# Altium integrated library Linear Technology Power Management System Supervisor, Monitor and Control.IntLib: 1611 symbols (part 16 of 100)
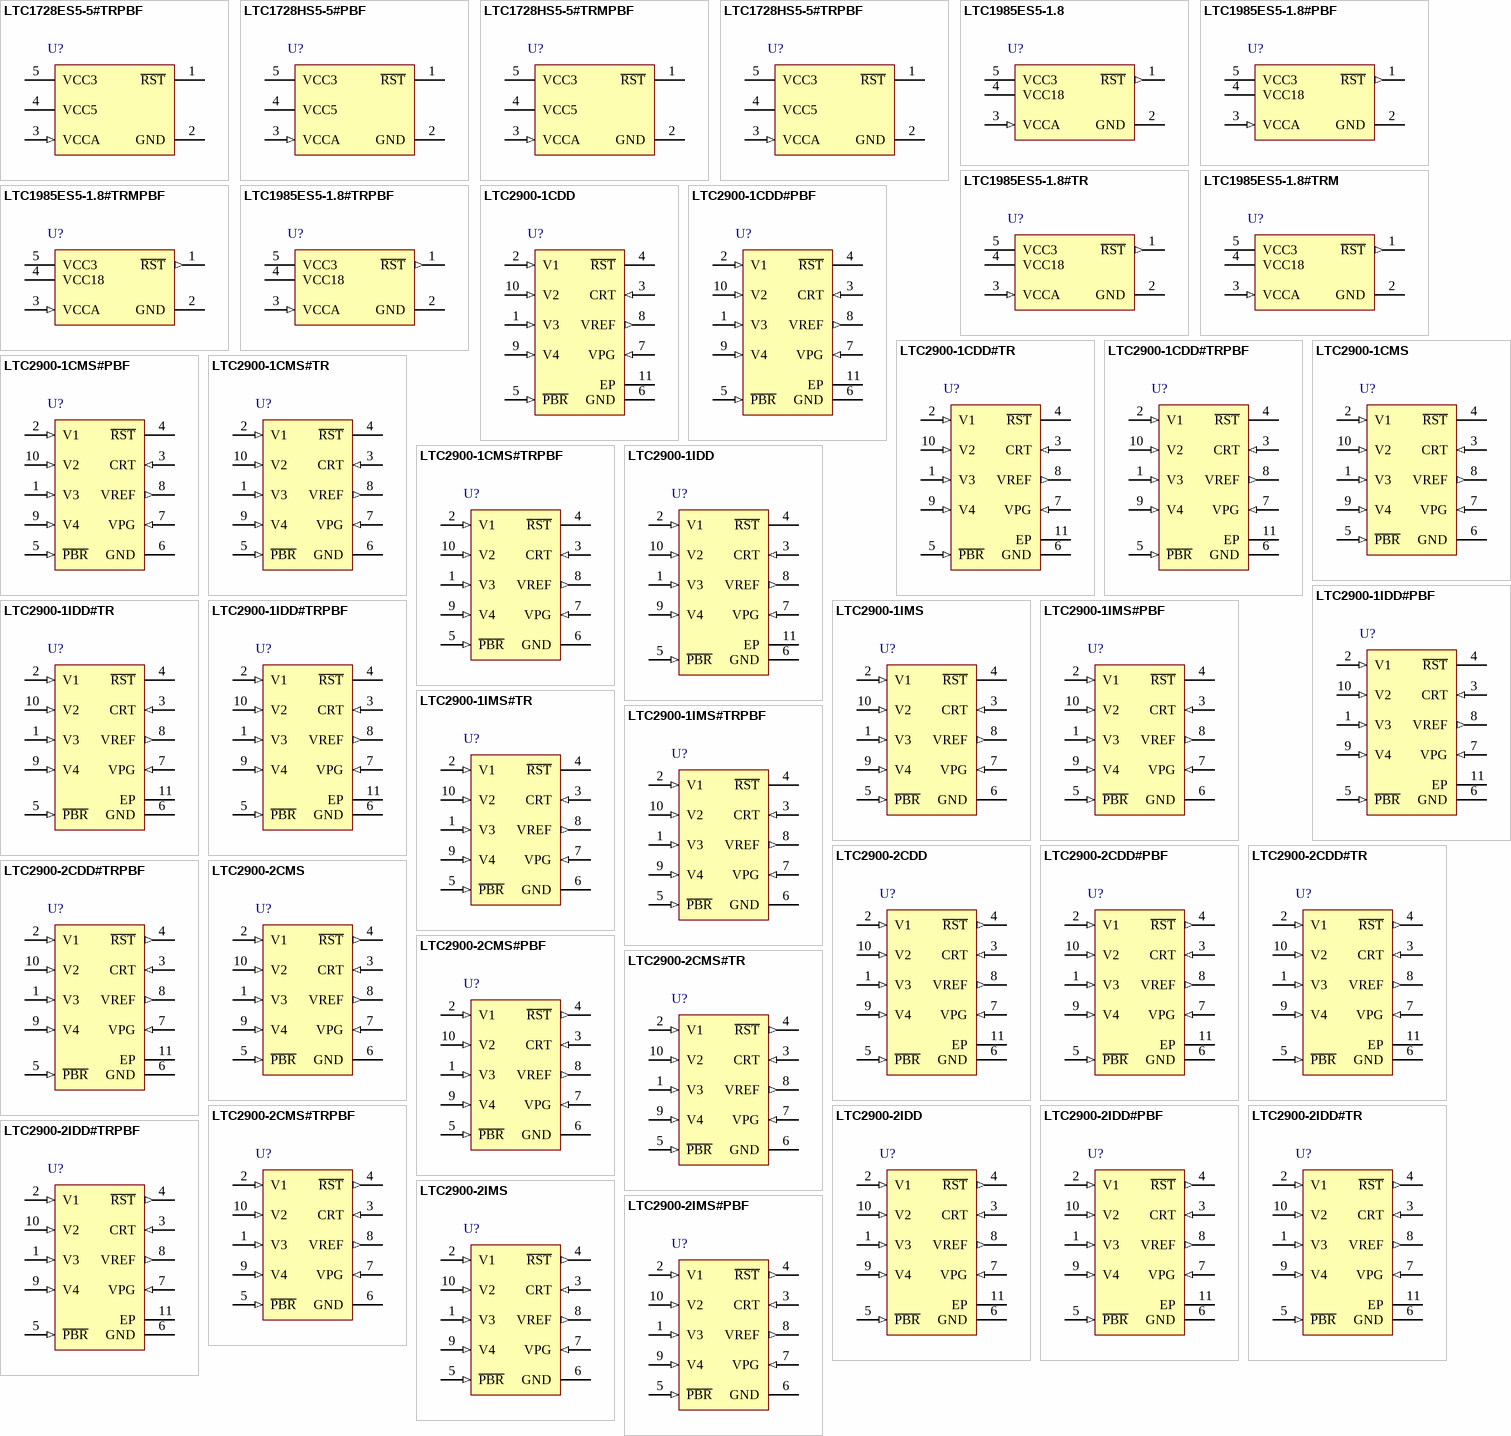
[diagram p60: symbols LTC1728ES5-5#TRPBF to LTC2900-2IMS#PBF]

## LTC2900-1IMS
designator U?
Programmable Quad Supply Monitor with Adjustable Reset Timer, 10-pin SOP (MS-10), -40 to 85 degC; Manufacturer: Linear Technology; PartNumber: LTC2900-1IMS; Number of Supplies(#): 4; PackageVersion: Rev. E, 06/2010; PackageReference: MS-10; PackageDescription: 10-Pin Plastic MSOP, Body 3 x 3 mm, Pitch 0.5 mm; Supplier 1: Digi-Key; Supplier Part Number 1: LTC2900-1IMS-ND; Supplier 2: Newark; Supplier Part Number 2: 56M6552; RoHS: FALSE; Mounting Technology: Surface Mount; ComponentLink1Description: Manufacturer URL; ComponentLink1URL: http://www.linear.com/; ComponentLink2Description: Datasheet; ComponentLink2URL: http://cds.linear.com/docs/en/datasheet/2900f.pdf; ComponentLink3Description: Package Specification; ComponentLink3URL: http://cds.linear.com/docs/en/packaging/05081661_F_MS.pdf
footprint LT-MS-10_N (SOP, 10-Leads, Body 3.1x3.1mm, Pitch 0.5mm, IPC Medium Density)
footprint LT-MS-10_L (SOP, 10-Leads, Body 3.1x3.1mm, Pitch 0.5mm, IPC High Density)
footprint LT-MS-10_M (SOP, 10-Leads, Body 3.1x3.1mm, Pitch 0.5mm, IPC Low Density)
pins: 1 V3 (in) "Voltage Input 3. Select from 2.5V, 1.8V, 1.5V or ADJ. See Table 1 for details.", 2 V1 (in) "Voltage Input 1. Select from 5V or 3.3V. See Table 1 for details. The greater of (V1, V2) is also VCC for the device. Bypass this pin to ground with a 0.1uF (or greater) capacitor.", 3 CRT (in) "Reset Delay Time Programming Pin. Attach an external capacitor (CRT) to GND to set a reset delay time of 4.6ms/nF. Leaving the pin open generates a minimum delay of approximately 50us. A 47nF capacitor will generate a 216ms (See Datasheet)", 4 ~{RST} (oc) "Reset Logic Output. Active low with weak pull-up to V2 (LTC2900-1) or active pull-up to V2 (LTC2900-2). Pulls low when any voltage input is below the reset threshold and held low for the programmed delay time after all (See Datasheet)", 5 ~{PBR} (in) "Manual Reset Pin. Attach a push-button switch between this pin and ground. A logic low on this pin will pull R\S\T\ low. When the P\B\R\ pin returns high, R\S\T\ will return high after the programmed reset delay assuming all (See Datasheet)", 6 GND (power) "Ground.", 7 VPG (in) "Voltage Threshold Combination Select Input. Connect to an external 1% resistive divider between VREF and GND to select 1 of 16 combinations of preset and/or +/-adjustable voltage thresholds (see Table 1). Do not add (See Datasheet)", 8 VREF (out) "Buffered Reference Voltage. A 1.210V nominal reference used for the programming voltage (VPG) and for the offset of negative adjustable applications. The buffered reference can source and sink up to 1mA. The reference can (See Datasheet)", 9 V4 (in) "Voltage Input 4. Select from 1.8V, 1.5V, ADJ or -ADJ. See Table 1 for details.", 10 V2 (in) "Voltage Input 2. Select from 3.3V, 3V or 2.5V. See Table 1 for details. The greater of (V1, V2) is also VCC for the device. Bypass this pin to ground with a 0.1uF (or greater) capacitor. R\S\T\ is weakly pulled up to V2 (See Datasheet)"

## LTC2900-1IMS#PBF
designator U?
Programmable Quad Supply Monitor with Adjustable Reset Timer, 10-pin SOP (MS-10), -40 to 85 degC, Pb-Free; Manufacturer: Linear Technology; PartNumber: LTC2900-1IMS#PBF; Number of Supplies(#): 4; PackageVersion: Rev. E, 06/2010; PackageReference: MS-10; PackageDescription: 10-Pin Plastic MSOP, Body 3 x 3 mm, Pitch 0.5 mm; Supplier 1: Digi-Key; Supplier Part Number 1: LTC2900-1IMS#PBF-ND; Supplier 2: Farnell; Supplier Part Number 2: 2102613; Supplier 3: Farnell; Supplier Part Number 3: 1556404; Supplier 4: Newark; Supplier Part Number 4: 56M6553; RoHS: TRUE; Mounting Technology: Surface Mount; ComponentLink1Description: Manufacturer URL; ComponentLink1URL: http://www.linear.com/; ComponentLink2Description: Datasheet; ComponentLink2URL: http://cds.linear.com/docs/en/datasheet/2900f.pdf; ComponentLink3Description: Package Specification; ComponentLink3URL: http://cds.linear.com/docs/en/packaging/05081661_F_MS.pdf
footprint LT-MS-10_N (SOP, 10-Leads, Body 3.1x3.1mm, Pitch 0.5mm, IPC Medium Density)
footprint LT-MS-10_L (SOP, 10-Leads, Body 3.1x3.1mm, Pitch 0.5mm, IPC High Density)
footprint LT-MS-10_M (SOP, 10-Leads, Body 3.1x3.1mm, Pitch 0.5mm, IPC Low Density)
pins: 1 V3 (in) "Voltage Input 3. Select from 2.5V, 1.8V, 1.5V or ADJ. See Table 1 for details.", 2 V1 (in) "Voltage Input 1. Select from 5V or 3.3V. See Table 1 for details. The greater of (V1, V2) is also VCC for the device. Bypass this pin to ground with a 0.1uF (or greater) capacitor.", 3 CRT (in) "Reset Delay Time Programming Pin. Attach an external capacitor (CRT) to GND to set a reset delay time of 4.6ms/nF. Leaving the pin open generates a minimum delay of approximately 50us. A 47nF capacitor will generate a 216ms (See Datasheet)", 4 ~{RST} (oc) "Reset Logic Output. Active low with weak pull-up to V2 (LTC2900-1) or active pull-up to V2 (LTC2900-2). Pulls low when any voltage input is below the reset threshold and held low for the programmed delay time after all (See Datasheet)", 5 ~{PBR} (in) "Manual Reset Pin. Attach a push-button switch between this pin and ground. A logic low on this pin will pull R\S\T\ low. When the P\B\R\ pin returns high, R\S\T\ will return high after the programmed reset delay assuming all (See Datasheet)", 6 GND (power) "Ground.", 7 VPG (in) "Voltage Threshold Combination Select Input. Connect to an external 1% resistive divider between VREF and GND to select 1 of 16 combinations of preset and/or +/-adjustable voltage thresholds (see Table 1). Do not add (See Datasheet)", 8 VREF (out) "Buffered Reference Voltage. A 1.210V nominal reference used for the programming voltage (VPG) and for the offset of negative adjustable applications. The buffered reference can source and sink up to 1mA. The reference can (See Datasheet)", 9 V4 (in) "Voltage Input 4. Select from 1.8V, 1.5V, ADJ or -ADJ. See Table 1 for details.", 10 V2 (in) "Voltage Input 2. Select from 3.3V, 3V or 2.5V. See Table 1 for details. The greater of (V1, V2) is also VCC for the device. Bypass this pin to ground with a 0.1uF (or greater) capacitor. R\S\T\ is weakly pulled up to V2 (See Datasheet)"

## LTC2900-1IMS#TR
designator U?
Programmable Quad Supply Monitor with Adjustable Reset Timer, 10-pin SOP (MS-10), -40 to 85 degC, Tape and Reel; Manufacturer: Linear Technology; PartNumber: LTC2900-1IMS#TR; Number of Supplies(#): 4; PackageVersion: Rev. E, 06/2010; PackageReference: MS-10; PackageDescription: 10-Pin Plastic MSOP, Body 3 x 3 mm, Pitch 0.5 mm; Supplier 1: Digi-Key; Supplier Part Number 1: LTC2900-1IMS#TR-ND; Packing: Tape and Reel; RoHS: FALSE; Mounting Technology: Surface Mount; ComponentLink1Description: Manufacturer URL; ComponentLink1URL: http://www.linear.com/; ComponentLink2Description: Datasheet; ComponentLink2URL: http://cds.linear.com/docs/en/datasheet/2900f.pdf; ComponentLink3Description: Package Specification; ComponentLink3URL: http://cds.linear.com/docs/en/packaging/05081661_F_MS.pdf
footprint LT-MS-10_N (SOP, 10-Leads, Body 3.1x3.1mm, Pitch 0.5mm, IPC Medium Density)
footprint LT-MS-10_L (SOP, 10-Leads, Body 3.1x3.1mm, Pitch 0.5mm, IPC High Density)
footprint LT-MS-10_M (SOP, 10-Leads, Body 3.1x3.1mm, Pitch 0.5mm, IPC Low Density)
pins: 1 V3 (in) "Voltage Input 3. Select from 2.5V, 1.8V, 1.5V or ADJ. See Table 1 for details.", 2 V1 (in) "Voltage Input 1. Select from 5V or 3.3V. See Table 1 for details. The greater of (V1, V2) is also VCC for the device. Bypass this pin to ground with a 0.1uF (or greater) capacitor.", 3 CRT (in) "Reset Delay Time Programming Pin. Attach an external capacitor (CRT) to GND to set a reset delay time of 4.6ms/nF. Leaving the pin open generates a minimum delay of approximately 50us. A 47nF capacitor will generate a 216ms (See Datasheet)", 4 ~{RST} (oc) "Reset Logic Output. Active low with weak pull-up to V2 (LTC2900-1) or active pull-up to V2 (LTC2900-2). Pulls low when any voltage input is below the reset threshold and held low for the programmed delay time after all (See Datasheet)", 5 ~{PBR} (in) "Manual Reset Pin. Attach a push-button switch between this pin and ground. A logic low on this pin will pull R\S\T\ low. When the P\B\R\ pin returns high, R\S\T\ will return high after the programmed reset delay assuming all (See Datasheet)", 6 GND (power) "Ground.", 7 VPG (in) "Voltage Threshold Combination Select Input. Connect to an external 1% resistive divider between VREF and GND to select 1 of 16 combinations of preset and/or +/-adjustable voltage thresholds (see Table 1). Do not add (See Datasheet)", 8 VREF (out) "Buffered Reference Voltage. A 1.210V nominal reference used for the programming voltage (VPG) and for the offset of negative adjustable applications. The buffered reference can source and sink up to 1mA. The reference can (See Datasheet)", 9 V4 (in) "Voltage Input 4. Select from 1.8V, 1.5V, ADJ or -ADJ. See Table 1 for details.", 10 V2 (in) "Voltage Input 2. Select from 3.3V, 3V or 2.5V. See Table 1 for details. The greater of (V1, V2) is also VCC for the device. Bypass this pin to ground with a 0.1uF (or greater) capacitor. R\S\T\ is weakly pulled up to V2 (See Datasheet)"

## LTC2900-1IMS#TRPBF
designator U?
Programmable Quad Supply Monitor with Adjustable Reset Timer, 10-pin SOP (MS-10), -40 to 85 degC, Pb-Free, Tape and Reel; Manufacturer: Linear Technology; PartNumber: LTC2900-1IMS#TRPBF; Number of Supplies(#): 4; PackageVersion: Rev. E, 06/2010; PackageReference: MS-10; PackageDescription: 10-Pin Plastic MSOP, Body 3 x 3 mm, Pitch 0.5 mm; Supplier 1: Digi-Key; Supplier Part Number 1: LTC2900-1IMS#TRPBF-ND; Supplier 2: Newark; Supplier Part Number 2: 56M6555; Packing: Tape and Reel; RoHS: TRUE; Mounting Technology: Surface Mount; ComponentLink1Description: Manufacturer URL; ComponentLink1URL: http://www.linear.com/; ComponentLink2Description: Datasheet; ComponentLink2URL: http://cds.linear.com/docs/en/datasheet/2900f.pdf; ComponentLink3Description: Package Specification; ComponentLink3URL: http://cds.linear.com/docs/en/packaging/05081661_F_MS.pdf
footprint LT-MS-10_N (SOP, 10-Leads, Body 3.1x3.1mm, Pitch 0.5mm, IPC Medium Density)
footprint LT-MS-10_L (SOP, 10-Leads, Body 3.1x3.1mm, Pitch 0.5mm, IPC High Density)
footprint LT-MS-10_M (SOP, 10-Leads, Body 3.1x3.1mm, Pitch 0.5mm, IPC Low Density)
pins: 1 V3 (in) "Voltage Input 3. Select from 2.5V, 1.8V, 1.5V or ADJ. See Table 1 for details.", 2 V1 (in) "Voltage Input 1. Select from 5V or 3.3V. See Table 1 for details. The greater of (V1, V2) is also VCC for the device. Bypass this pin to ground with a 0.1uF (or greater) capacitor.", 3 CRT (in) "Reset Delay Time Programming Pin. Attach an external capacitor (CRT) to GND to set a reset delay time of 4.6ms/nF. Leaving the pin open generates a minimum delay of approximately 50us. A 47nF capacitor will generate a 216ms (See Datasheet)", 4 ~{RST} (oc) "Reset Logic Output. Active low with weak pull-up to V2 (LTC2900-1) or active pull-up to V2 (LTC2900-2). Pulls low when any voltage input is below the reset threshold and held low for the programmed delay time after all (See Datasheet)", 5 ~{PBR} (in) "Manual Reset Pin. Attach a push-button switch between this pin and ground. A logic low on this pin will pull R\S\T\ low. When the P\B\R\ pin returns high, R\S\T\ will return high after the programmed reset delay assuming all (See Datasheet)", 6 GND (power) "Ground.", 7 VPG (in) "Voltage Threshold Combination Select Input. Connect to an external 1% resistive divider between VREF and GND to select 1 of 16 combinations of preset and/or +/-adjustable voltage thresholds (see Table 1). Do not add (See Datasheet)", 8 VREF (out) "Buffered Reference Voltage. A 1.210V nominal reference used for the programming voltage (VPG) and for the offset of negative adjustable applications. The buffered reference can source and sink up to 1mA. The reference can (See Datasheet)", 9 V4 (in) "Voltage Input 4. Select from 1.8V, 1.5V, ADJ or -ADJ. See Table 1 for details.", 10 V2 (in) "Voltage Input 2. Select from 3.3V, 3V or 2.5V. See Table 1 for details. The greater of (V1, V2) is also VCC for the device. Bypass this pin to ground with a 0.1uF (or greater) capacitor. R\S\T\ is weakly pulled up to V2 (See Datasheet)"

## LTC2900-2CDD
designator U?
Programmable Quad Supply Monitor with Adjustable Reset Timer, 10-pin SON (DD-10), 0 to 70 degC; Manufacturer: Linear Technology; PartNumber: LTC2900-2CDD; Number of Supplies(#): 4; PackageVersion: Rev. C, 06/2010; PackageReference: DD-10; PackageDescription: 10-Pin Plastic DFN, Body 3 x 3 mm, Pitch 0.5 mm; Supplier 1: Digi-Key; Supplier Part Number 1: LTC2900-2CDD-ND; RoHS: FALSE; Mounting Technology: Surface Mount; Code_JEDEC: MO-229; ComponentLink1Description: Manufacturer URL; ComponentLink1URL: http://www.linear.com/; ComponentLink2Description: Datasheet; ComponentLink2URL: http://cds.linear.com/docs/en/datasheet/2900f.pdf; ComponentLink3Description: Package Specification; ComponentLink3URL: http://cds.linear.com/docs/en/packaging/DFN_10_05-08-1699.pdf
footprint LT-DD-10_V (SON, 10-Leads, Body 3x3mm, Pitch 0.5mm, Thermal Pad 2.38x1.65mm)
pins: 1 V3 (in) "Voltage Input 3. Select from 2.5V, 1.8V, 1.5V or ADJ. See Table 1 for details.", 2 V1 (in) "Voltage Input 1. Select from 5V or 3.3V. See Table 1 for details. The greater of (V1, V2) is also VCC for the device. Bypass this pin to ground with a 0.1uF (or greater) capacitor.", 3 CRT (in) "Reset Delay Time Programming Pin. Attach an external capacitor (CRT) to GND to set a reset delay time of 4.6ms/nF. Leaving the pin open generates a minimum delay of approximately 50ms. A 47nF capacitor will generate a 216ms (See Datasheet)", 4 ~{RST} (out) "Reset Logic Output. Active low with active pull-up to V2 (LTC2900-2). Pulls low when any voltage input is below the reset threshold and held low for the programmed delay time after all voltage inputs are above threshold.", 5 ~{PBR} (in) "Manual Reset Pin. Attach a push-button switch between this pin and ground. A logic low on this pin will pull R\S\T\ low. When the P\B\R\ pin returns high, R\S\T\ will return high after the programmed reset delay assuming all (See Datasheet)", 6 GND (power) "Ground.", 7 VPG (in) "Voltage Threshold Combination Select Input. Connect to an external 1% resistive divider between VREF and GND to select 1 of 16 combinations of preset and/or +/-adjustable voltage thresholds (see Table 1). Do not add (See Datasheet)", 8 VREF (out) "Buffered Reference Voltage. A 1.210V nominal reference used for the programming voltage (VPG) and for the offset of negative adjustable applications. The buffered reference can source and sink up to 1mA. The reference can (See Datasheet)", 9 V4 (in) "Voltage Input 4. Select from 1.8V, 1.5V, ADJ or -ADJ. See Table 1 for details.", 10 V2 (in) "Voltage Input 2. Select from 3.3V, 3V or 2.5V. See Table 1 for details. The greater of (V1, V2) is also VCC for the device. Bypass this pin to ground with a 0.1uF (or greater) capacitor.R\S\T\ is actively pulled up to V2 in (See Datasheet)", 11 EP

## LTC2900-2CDD#PBF
designator U?
Programmable Quad Supply Monitor with Adjustable Reset Timer, 10-pin SON (DD-10), 0 to 70 degC, Pb-Free; Manufacturer: Linear Technology; PartNumber: LTC2900-2CDD#PBF; Number of Supplies(#): 4; PackageVersion: Rev. C, 06/2010; PackageReference: DD-10; PackageDescription: 10-Pin Plastic DFN, Body 3 x 3 mm, Pitch 0.5 mm; Supplier 1: Digi-Key; Supplier Part Number 1: LTC2900-2CDD#PBF-ND; RoHS: TRUE; Mounting Technology: Surface Mount; Code_JEDEC: MO-229; ComponentLink1Description: Manufacturer URL; ComponentLink1URL: http://www.linear.com/; ComponentLink2Description: Datasheet; ComponentLink2URL: http://cds.linear.com/docs/en/datasheet/2900f.pdf; ComponentLink3Description: Package Specification; ComponentLink3URL: http://cds.linear.com/docs/en/packaging/DFN_10_05-08-1699.pdf
footprint LT-DD-10_V (SON, 10-Leads, Body 3x3mm, Pitch 0.5mm, Thermal Pad 2.38x1.65mm)
pins: 1 V3 (in) "Voltage Input 3. Select from 2.5V, 1.8V, 1.5V or ADJ. See Table 1 for details.", 2 V1 (in) "Voltage Input 1. Select from 5V or 3.3V. See Table 1 for details. The greater of (V1, V2) is also VCC for the device. Bypass this pin to ground with a 0.1uF (or greater) capacitor.", 3 CRT (in) "Reset Delay Time Programming Pin. Attach an external capacitor (CRT) to GND to set a reset delay time of 4.6ms/nF. Leaving the pin open generates a minimum delay of approximately 50ms. A 47nF capacitor will generate a 216ms (See Datasheet)", 4 ~{RST} (out) "Reset Logic Output. Active low with active pull-up to V2 (LTC2900-2). Pulls low when any voltage input is below the reset threshold and held low for the programmed delay time after all voltage inputs are above threshold.", 5 ~{PBR} (in) "Manual Reset Pin. Attach a push-button switch between this pin and ground. A logic low on this pin will pull R\S\T\ low. When the P\B\R\ pin returns high, R\S\T\ will return high after the programmed reset delay assuming all (See Datasheet)", 6 GND (power) "Ground.", 7 VPG (in) "Voltage Threshold Combination Select Input. Connect to an external 1% resistive divider between VREF and GND to select 1 of 16 combinations of preset and/or +/-adjustable voltage thresholds (see Table 1). Do not add (See Datasheet)", 8 VREF (out) "Buffered Reference Voltage. A 1.210V nominal reference used for the programming voltage (VPG) and for the offset of negative adjustable applications. The buffered reference can source and sink up to 1mA. The reference can (See Datasheet)", 9 V4 (in) "Voltage Input 4. Select from 1.8V, 1.5V, ADJ or -ADJ. See Table 1 for details.", 10 V2 (in) "Voltage Input 2. Select from 3.3V, 3V or 2.5V. See Table 1 for details. The greater of (V1, V2) is also VCC for the device. Bypass this pin to ground with a 0.1uF (or greater) capacitor.R\S\T\ is actively pulled up to V2 in (See Datasheet)", 11 EP

## LTC2900-2CDD#TR
designator U?
Programmable Quad Supply Monitor with Adjustable Reset Timer, 10-pin SON (DD-10), 0 to 70 degC, Tape and Reel; Manufacturer: Linear Technology; PartNumber: LTC2900-2CDD#TR; Number of Supplies(#): 4; PackageVersion: Rev. C, 06/2010; PackageReference: DD-10; PackageDescription: 10-Pin Plastic DFN, Body 3 x 3 mm, Pitch 0.5 mm; Supplier 1: Digi-Key; Supplier Part Number 1: LTC2900-2CDD#TR-ND; Packing: Tape and Reel; RoHS: FALSE; Mounting Technology: Surface Mount; Code_JEDEC: MO-229; ComponentLink1Description: Manufacturer URL; ComponentLink1URL: http://www.linear.com/; ComponentLink2Description: Datasheet; ComponentLink2URL: http://cds.linear.com/docs/en/datasheet/2900f.pdf; ComponentLink3Description: Package Specification; ComponentLink3URL: http://cds.linear.com/docs/en/packaging/DFN_10_05-08-1699.pdf
footprint LT-DD-10_V (SON, 10-Leads, Body 3x3mm, Pitch 0.5mm, Thermal Pad 2.38x1.65mm)
pins: 1 V3 (in) "Voltage Input 3. Select from 2.5V, 1.8V, 1.5V or ADJ. See Table 1 for details.", 2 V1 (in) "Voltage Input 1. Select from 5V or 3.3V. See Table 1 for details. The greater of (V1, V2) is also VCC for the device. Bypass this pin to ground with a 0.1uF (or greater) capacitor.", 3 CRT (in) "Reset Delay Time Programming Pin. Attach an external capacitor (CRT) to GND to set a reset delay time of 4.6ms/nF. Leaving the pin open generates a minimum delay of approximately 50ms. A 47nF capacitor will generate a 216ms (See Datasheet)", 4 ~{RST} (out) "Reset Logic Output. Active low with active pull-up to V2 (LTC2900-2). Pulls low when any voltage input is below the reset threshold and held low for the programmed delay time after all voltage inputs are above threshold.", 5 ~{PBR} (in) "Manual Reset Pin. Attach a push-button switch between this pin and ground. A logic low on this pin will pull R\S\T\ low. When the P\B\R\ pin returns high, R\S\T\ will return high after the programmed reset delay assuming all (See Datasheet)", 6 GND (power) "Ground.", 7 VPG (in) "Voltage Threshold Combination Select Input. Connect to an external 1% resistive divider between VREF and GND to select 1 of 16 combinations of preset and/or +/-adjustable voltage thresholds (see Table 1). Do not add (See Datasheet)", 8 VREF (out) "Buffered Reference Voltage. A 1.210V nominal reference used for the programming voltage (VPG) and for the offset of negative adjustable applications. The buffered reference can source and sink up to 1mA. The reference can (See Datasheet)", 9 V4 (in) "Voltage Input 4. Select from 1.8V, 1.5V, ADJ or -ADJ. See Table 1 for details.", 10 V2 (in) "Voltage Input 2. Select from 3.3V, 3V or 2.5V. See Table 1 for details. The greater of (V1, V2) is also VCC for the device. Bypass this pin to ground with a 0.1uF (or greater) capacitor.R\S\T\ is actively pulled up to V2 in (See Datasheet)", 11 EP

## LTC2900-2CDD#TRPBF
designator U?
Programmable Quad Supply Monitor with Adjustable Reset Timer, 10-pin SON (DD-10), 0 to 70 degC, Pb-Free, Tape and Reel; Manufacturer: Linear Technology; PartNumber: LTC2900-2CDD#TRPBF; Number of Supplies(#): 4; PackageVersion: Rev. C, 06/2010; PackageReference: DD-10; PackageDescription: 10-Pin Plastic DFN, Body 3 x 3 mm, Pitch 0.5 mm; Supplier 1: Digi-Key; Supplier Part Number 1: LTC2900-2CDD#TRPBF-ND; Packing: Tape and Reel; RoHS: TRUE; Mounting Technology: Surface Mount; Code_JEDEC: MO-229; ComponentLink1Description: Manufacturer URL; ComponentLink1URL: http://www.linear.com/; ComponentLink2Description: Datasheet; ComponentLink2URL: http://cds.linear.com/docs/en/datasheet/2900f.pdf; ComponentLink3Description: Package Specification; ComponentLink3URL: http://cds.linear.com/docs/en/packaging/DFN_10_05-08-1699.pdf
footprint LT-DD-10_V (SON, 10-Leads, Body 3x3mm, Pitch 0.5mm, Thermal Pad 2.38x1.65mm)
pins: 1 V3 (in) "Voltage Input 3. Select from 2.5V, 1.8V, 1.5V or ADJ. See Table 1 for details.", 2 V1 (in) "Voltage Input 1. Select from 5V or 3.3V. See Table 1 for details. The greater of (V1, V2) is also VCC for the device. Bypass this pin to ground with a 0.1uF (or greater) capacitor.", 3 CRT (in) "Reset Delay Time Programming Pin. Attach an external capacitor (CRT) to GND to set a reset delay time of 4.6ms/nF. Leaving the pin open generates a minimum delay of approximately 50ms. A 47nF capacitor will generate a 216ms (See Datasheet)", 4 ~{RST} (out) "Reset Logic Output. Active low with active pull-up to V2 (LTC2900-2). Pulls low when any voltage input is below the reset threshold and held low for the programmed delay time after all voltage inputs are above threshold.", 5 ~{PBR} (in) "Manual Reset Pin. Attach a push-button switch between this pin and ground. A logic low on this pin will pull R\S\T\ low. When the P\B\R\ pin returns high, R\S\T\ will return high after the programmed reset delay assuming all (See Datasheet)", 6 GND (power) "Ground.", 7 VPG (in) "Voltage Threshold Combination Select Input. Connect to an external 1% resistive divider between VREF and GND to select 1 of 16 combinations of preset and/or +/-adjustable voltage thresholds (see Table 1). Do not add (See Datasheet)", 8 VREF (out) "Buffered Reference Voltage. A 1.210V nominal reference used for the programming voltage (VPG) and for the offset of negative adjustable applications. The buffered reference can source and sink up to 1mA. The reference can (See Datasheet)", 9 V4 (in) "Voltage Input 4. Select from 1.8V, 1.5V, ADJ or -ADJ. See Table 1 for details.", 10 V2 (in) "Voltage Input 2. Select from 3.3V, 3V or 2.5V. See Table 1 for details. The greater of (V1, V2) is also VCC for the device. Bypass this pin to ground with a 0.1uF (or greater) capacitor.R\S\T\ is actively pulled up to V2 in (See Datasheet)", 11 EP

## LTC2900-2CMS
designator U?
Programmable Quad Supply Monitor with Adjustable Reset Timer, 10-pin SOP (MS-10), 0 to 70 degC; Manufacturer: Linear Technology; PartNumber: LTC2900-2CMS; Number of Supplies(#): 4; PackageVersion: Rev. E, 06/2010; PackageReference: MS-10; PackageDescription: 10-Pin Plastic MSOP, Body 3 x 3 mm, Pitch 0.5 mm; RoHS: FALSE; Mounting Technology: Surface Mount; ComponentLink1Description: Manufacturer URL; ComponentLink1URL: http://www.linear.com/; ComponentLink2Description: Datasheet; ComponentLink2URL: http://cds.linear.com/docs/en/datasheet/2900f.pdf; ComponentLink3Description: Package Specification; ComponentLink3URL: http://cds.linear.com/docs/en/packaging/05081661_F_MS.pdf
footprint LT-MS-10_N (SOP, 10-Leads, Body 3.1x3.1mm, Pitch 0.5mm, IPC Medium Density)
footprint LT-MS-10_L (SOP, 10-Leads, Body 3.1x3.1mm, Pitch 0.5mm, IPC High Density)
footprint LT-MS-10_M (SOP, 10-Leads, Body 3.1x3.1mm, Pitch 0.5mm, IPC Low Density)
pins: 1 V3 (in) "Voltage Input 3. Select from 2.5V, 1.8V, 1.5V or ADJ. See Table 1 for details.", 2 V1 (in) "Voltage Input 1. Select from 5V or 3.3V. See Table 1 for details. The greater of (V1, V2) is also VCC for the device. Bypass this pin to ground with a 0.1uF (or greater) capacitor.", 3 CRT (in) "Reset Delay Time Programming Pin. Attach an external capacitor (CRT) to GND to set a reset delay time of 4.6ms/nF. Leaving the pin open generates a minimum delay of approximately 50us. A 47nF capacitor will generate a 216ms (See Datasheet)", 4 ~{RST} (out) "Reset Logic Output. Active low with active pull-up to V2 (LTC2900-2). Pulls low when any voltage input is below the reset threshold and held low for the programmed delay time after all voltage inputs are above threshold.", 5 ~{PBR} (in) "Manual Reset Pin. Attach a push-button switch between this pin and ground. A logic low on this pin will pull R\S\T\ low. When the P\B\R\ pin returns high, R\S\T\ will return high after the programmed reset delay assuming all (See Datasheet)", 6 GND (power) "Ground.", 7 VPG (in) "Voltage Threshold Combination Select Input. Connect to an external 1% resistive divider between VREF and GND to select 1 of 16 combinations of preset and/or +/-adjustable voltage thresholds (see Table 1). Do not add (See Datasheet)", 8 VREF (out) "Buffered Reference Voltage. A 1.210V nominal reference used for the programming voltage (VPG) and for the offset of negative adjustable applications. The buffered reference can source and sink up to 1mA. The reference can (See Datasheet)", 9 V4 (in) "Voltage Input 4. Select from 1.8V, 1.5V, ADJ or -ADJ. See Table 1 for details.", 10 V2 (in) "Voltage Input 2. Select from 3.3V, 3V or 2.5V. See Table 1 for details. The greater of (V1, V2) is also VCC for the device. Bypass this pin to ground with a 0.1uF (or greater) capacitor.R\S\T\ is actively pulled up to V2 in (See Datasheet)"

## LTC2900-2CMS#PBF
designator U?
Programmable Quad Supply Monitor with Adjustable Reset Timer, 10-pin SOP (MS-10), 0 to 70 degC, Pb-Free; Manufacturer: Linear Technology; PartNumber: LTC2900-2CMS#PBF; Number of Supplies(#): 4; PackageVersion: Rev. E, 06/2010; PackageReference: MS-10; PackageDescription: 10-Pin Plastic MSOP, Body 3 x 3 mm, Pitch 0.5 mm; Supplier 1: Digi-Key; Supplier Part Number 1: LTC2900-2CMS#PBF-ND; Supplier 2: Farnell; Supplier Part Number 2: 2295399; Supplier 3: Newark; Supplier Part Number 3: 56M6561; RoHS: TRUE; Mounting Technology: Surface Mount; ComponentLink1Description: Manufacturer URL; ComponentLink1URL: http://www.linear.com/; ComponentLink2Description: Datasheet; ComponentLink2URL: http://cds.linear.com/docs/en/datasheet/2900f.pdf; ComponentLink3Description: Package Specification; ComponentLink3URL: http://cds.linear.com/docs/en/packaging/05081661_F_MS.pdf
footprint LT-MS-10_N (SOP, 10-Leads, Body 3.1x3.1mm, Pitch 0.5mm, IPC Medium Density)
footprint LT-MS-10_L (SOP, 10-Leads, Body 3.1x3.1mm, Pitch 0.5mm, IPC High Density)
footprint LT-MS-10_M (SOP, 10-Leads, Body 3.1x3.1mm, Pitch 0.5mm, IPC Low Density)
pins: 1 V3 (in) "Voltage Input 3. Select from 2.5V, 1.8V, 1.5V or ADJ. See Table 1 for details.", 2 V1 (in) "Voltage Input 1. Select from 5V or 3.3V. See Table 1 for details. The greater of (V1, V2) is also VCC for the device. Bypass this pin to ground with a 0.1uF (or greater) capacitor.", 3 CRT (in) "Reset Delay Time Programming Pin. Attach an external capacitor (CRT) to GND to set a reset delay time of 4.6ms/nF. Leaving the pin open generates a minimum delay of approximately 50us. A 47nF capacitor will generate a 216ms (See Datasheet)", 4 ~{RST} (out) "Reset Logic Output. Active low with active pull-up to V2 (LTC2900-2). Pulls low when any voltage input is below the reset threshold and held low for the programmed delay time after all voltage inputs are above threshold.", 5 ~{PBR} (in) "Manual Reset Pin. Attach a push-button switch between this pin and ground. A logic low on this pin will pull R\S\T\ low. When the P\B\R\ pin returns high, R\S\T\ will return high after the programmed reset delay assuming all (See Datasheet)", 6 GND (power) "Ground.", 7 VPG (in) "Voltage Threshold Combination Select Input. Connect to an external 1% resistive divider between VREF and GND to select 1 of 16 combinations of preset and/or +/-adjustable voltage thresholds (see Table 1). Do not add (See Datasheet)", 8 VREF (out) "Buffered Reference Voltage. A 1.210V nominal reference used for the programming voltage (VPG) and for the offset of negative adjustable applications. The buffered reference can source and sink up to 1mA. The reference can (See Datasheet)", 9 V4 (in) "Voltage Input 4. Select from 1.8V, 1.5V, ADJ or -ADJ. See Table 1 for details.", 10 V2 (in) "Voltage Input 2. Select from 3.3V, 3V or 2.5V. See Table 1 for details. The greater of (V1, V2) is also VCC for the device. Bypass this pin to ground with a 0.1uF (or greater) capacitor.R\S\T\ is actively pulled up to V2 in (See Datasheet)"

## LTC2900-2CMS#TR
designator U?
Programmable Quad Supply Monitor with Adjustable Reset Timer, 10-pin SOP (MS-10), 0 to 70 degC, Tape and Reel; Manufacturer: Linear Technology; PartNumber: LTC2900-2CMS#TR; Number of Supplies(#): 4; PackageVersion: Rev. E, 06/2010; PackageReference: MS-10; PackageDescription: 10-Pin Plastic MSOP, Body 3 x 3 mm, Pitch 0.5 mm; Supplier 1: Digi-Key; Supplier Part Number 1: LTC2900-2CMS#TR-ND; Packing: Tape and Reel; RoHS: FALSE; Mounting Technology: Surface Mount; ComponentLink1Description: Manufacturer URL; ComponentLink1URL: http://www.linear.com/; ComponentLink2Description: Datasheet; ComponentLink2URL: http://cds.linear.com/docs/en/datasheet/2900f.pdf; ComponentLink3Description: Package Specification; ComponentLink3URL: http://cds.linear.com/docs/en/packaging/05081661_F_MS.pdf
footprint LT-MS-10_N (SOP, 10-Leads, Body 3.1x3.1mm, Pitch 0.5mm, IPC Medium Density)
footprint LT-MS-10_L (SOP, 10-Leads, Body 3.1x3.1mm, Pitch 0.5mm, IPC High Density)
footprint LT-MS-10_M (SOP, 10-Leads, Body 3.1x3.1mm, Pitch 0.5mm, IPC Low Density)
pins: 1 V3 (in) "Voltage Input 3. Select from 2.5V, 1.8V, 1.5V or ADJ. See Table 1 for details.", 2 V1 (in) "Voltage Input 1. Select from 5V or 3.3V. See Table 1 for details. The greater of (V1, V2) is also VCC for the device. Bypass this pin to ground with a 0.1uF (or greater) capacitor.", 3 CRT (in) "Reset Delay Time Programming Pin. Attach an external capacitor (CRT) to GND to set a reset delay time of 4.6ms/nF. Leaving the pin open generates a minimum delay of approximately 50us. A 47nF capacitor will generate a 216ms (See Datasheet)", 4 ~{RST} (out) "Reset Logic Output. Active low with active pull-up to V2 (LTC2900-2). Pulls low when any voltage input is below the reset threshold and held low for the programmed delay time after all voltage inputs are above threshold.", 5 ~{PBR} (in) "Manual Reset Pin. Attach a push-button switch between this pin and ground. A logic low on this pin will pull R\S\T\ low. When the P\B\R\ pin returns high, R\S\T\ will return high after the programmed reset delay assuming all (See Datasheet)", 6 GND (power) "Ground.", 7 VPG (in) "Voltage Threshold Combination Select Input. Connect to an external 1% resistive divider between VREF and GND to select 1 of 16 combinations of preset and/or +/-adjustable voltage thresholds (see Table 1). Do not add (See Datasheet)", 8 VREF (out) "Buffered Reference Voltage. A 1.210V nominal reference used for the programming voltage (VPG) and for the offset of negative adjustable applications. The buffered reference can source and sink up to 1mA. The reference can (See Datasheet)", 9 V4 (in) "Voltage Input 4. Select from 1.8V, 1.5V, ADJ or -ADJ. See Table 1 for details.", 10 V2 (in) "Voltage Input 2. Select from 3.3V, 3V or 2.5V. See Table 1 for details. The greater of (V1, V2) is also VCC for the device. Bypass this pin to ground with a 0.1uF (or greater) capacitor.R\S\T\ is actively pulled up to V2 in (See Datasheet)"

## LTC2900-2CMS#TRPBF
designator U?
Programmable Quad Supply Monitor with Adjustable Reset Timer, 10-pin SOP (MS-10), 0 to 70 degC, Pb-Free, Tape and Reel; Manufacturer: Linear Technology; PartNumber: LTC2900-2CMS#TRPBF; Number of Supplies(#): 4; PackageVersion: Rev. E, 06/2010; PackageReference: MS-10; PackageDescription: 10-Pin Plastic MSOP, Body 3 x 3 mm, Pitch 0.5 mm; Supplier 1: Digi-Key; Supplier Part Number 1: LTC2900-2CMS#TRPBF-ND; Packing: Tape and Reel; RoHS: TRUE; Mounting Technology: Surface Mount; ComponentLink1Description: Manufacturer URL; ComponentLink1URL: http://www.linear.com/; ComponentLink2Description: Datasheet; ComponentLink2URL: http://cds.linear.com/docs/en/datasheet/2900f.pdf; ComponentLink3Description: Package Specification; ComponentLink3URL: http://cds.linear.com/docs/en/packaging/05081661_F_MS.pdf
footprint LT-MS-10_N (SOP, 10-Leads, Body 3.1x3.1mm, Pitch 0.5mm, IPC Medium Density)
footprint LT-MS-10_L (SOP, 10-Leads, Body 3.1x3.1mm, Pitch 0.5mm, IPC High Density)
footprint LT-MS-10_M (SOP, 10-Leads, Body 3.1x3.1mm, Pitch 0.5mm, IPC Low Density)
pins: 1 V3 (in) "Voltage Input 3. Select from 2.5V, 1.8V, 1.5V or ADJ. See Table 1 for details.", 2 V1 (in) "Voltage Input 1. Select from 5V or 3.3V. See Table 1 for details. The greater of (V1, V2) is also VCC for the device. Bypass this pin to ground with a 0.1uF (or greater) capacitor.", 3 CRT (in) "Reset Delay Time Programming Pin. Attach an external capacitor (CRT) to GND to set a reset delay time of 4.6ms/nF. Leaving the pin open generates a minimum delay of approximately 50us. A 47nF capacitor will generate a 216ms (See Datasheet)", 4 ~{RST} (out) "Reset Logic Output. Active low with active pull-up to V2 (LTC2900-2). Pulls low when any voltage input is below the reset threshold and held low for the programmed delay time after all voltage inputs are above threshold.", 5 ~{PBR} (in) "Manual Reset Pin. Attach a push-button switch between this pin and ground. A logic low on this pin will pull R\S\T\ low. When the P\B\R\ pin returns high, R\S\T\ will return high after the programmed reset delay assuming all (See Datasheet)", 6 GND (power) "Ground.", 7 VPG (in) "Voltage Threshold Combination Select Input. Connect to an external 1% resistive divider between VREF and GND to select 1 of 16 combinations of preset and/or +/-adjustable voltage thresholds (see Table 1). Do not add (See Datasheet)", 8 VREF (out) "Buffered Reference Voltage. A 1.210V nominal reference used for the programming voltage (VPG) and for the offset of negative adjustable applications. The buffered reference can source and sink up to 1mA. The reference can (See Datasheet)", 9 V4 (in) "Voltage Input 4. Select from 1.8V, 1.5V, ADJ or -ADJ. See Table 1 for details.", 10 V2 (in) "Voltage Input 2. Select from 3.3V, 3V or 2.5V. See Table 1 for details. The greater of (V1, V2) is also VCC for the device. Bypass this pin to ground with a 0.1uF (or greater) capacitor.R\S\T\ is actively pulled up to V2 in (See Datasheet)"

## LTC2900-2IDD
designator U?
Programmable Quad Supply Monitor with Adjustable Reset Timer, 10-pin SON (DD-10), -40 to 85 degC; Manufacturer: Linear Technology; PartNumber: LTC2900-2IDD; Number of Supplies(#): 4; PackageVersion: Rev. C, 06/2010; PackageReference: DD-10; PackageDescription: 10-Pin Plastic DFN, Body 3 x 3 mm, Pitch 0.5 mm; Supplier 1: Digi-Key; Supplier Part Number 1: LTC2900-2IDD-ND; RoHS: FALSE; Mounting Technology: Surface Mount; Code_JEDEC: MO-229; ComponentLink1Description: Manufacturer URL; ComponentLink1URL: http://www.linear.com/; ComponentLink2Description: Datasheet; ComponentLink2URL: http://cds.linear.com/docs/en/datasheet/2900f.pdf; ComponentLink3Description: Package Specification; ComponentLink3URL: http://cds.linear.com/docs/en/packaging/DFN_10_05-08-1699.pdf
footprint LT-DD-10_V (SON, 10-Leads, Body 3x3mm, Pitch 0.5mm, Thermal Pad 2.38x1.65mm)
pins: 1 V3 (in) "Voltage Input 3. Select from 2.5V, 1.8V, 1.5V or ADJ. See Table 1 for details.", 2 V1 (in) "Voltage Input 1. Select from 5V or 3.3V. See Table 1 for details. The greater of (V1, V2) is also VCC for the device. Bypass this pin to ground with a 0.1uF (or greater) capacitor.", 3 CRT (in) "Reset Delay Time Programming Pin. Attach an external capacitor (CRT) to GND to set a reset delay time of 4.6ms/nF. Leaving the pin open generates a minimum delay of approximately 50ms. A 47nF capacitor will generate a 216ms (See Datasheet)", 4 ~{RST} (out) "Reset Logic Output. Active low with active pull-up to V2 (LTC2900-2). Pulls low when any voltage input is below the reset threshold and held low for the programmed delay time after all voltage inputs are above threshold.", 5 ~{PBR} (in) "Manual Reset Pin. Attach a push-button switch between this pin and ground. A logic low on this pin will pull R\S\T\ low. When the P\B\R\ pin returns high, R\S\T\ will return high after the programmed reset delay assuming all (See Datasheet)", 6 GND (power) "Ground.", 7 VPG (in) "Voltage Threshold Combination Select Input. Connect to an external 1% resistive divider between VREF and GND to select 1 of 16 combinations of preset and/or +/-adjustable voltage thresholds (see Table 1). Do not add (See Datasheet)", 8 VREF (out) "Buffered Reference Voltage. A 1.210V nominal reference used for the programming voltage (VPG) and for the offset of negative adjustable applications. The buffered reference can source and sink up to 1mA. The reference can (See Datasheet)", 9 V4 (in) "Voltage Input 4. Select from 1.8V, 1.5V, ADJ or -ADJ. See Table 1 for details.", 10 V2 (in) "Voltage Input 2. Select from 3.3V, 3V or 2.5V. See Table 1 for details. The greater of (V1, V2) is also VCC for the device. Bypass this pin to ground with a 0.1uF (or greater) capacitor.R\S\T\ is actively pulled up to V2 in (See Datasheet)", 11 EP

## LTC2900-2IDD#PBF
designator U?
Programmable Quad Supply Monitor with Adjustable Reset Timer, 10-pin SON (DD-10), -40 to 85 degC, Pb-Free; Manufacturer: Linear Technology; PartNumber: LTC2900-2IDD#PBF; Number of Supplies(#): 4; PackageVersion: Rev. C, 06/2010; PackageReference: DD-10; PackageDescription: 10-Pin Plastic DFN, Body 3 x 3 mm, Pitch 0.5 mm; Supplier 1: Digi-Key; Supplier Part Number 1: LTC2900-2IDD#PBF-ND; RoHS: TRUE; Mounting Technology: Surface Mount; Code_JEDEC: MO-229; ComponentLink1Description: Manufacturer URL; ComponentLink1URL: http://www.linear.com/; ComponentLink2Description: Datasheet; ComponentLink2URL: http://cds.linear.com/docs/en/datasheet/2900f.pdf; ComponentLink3Description: Package Specification; ComponentLink3URL: http://cds.linear.com/docs/en/packaging/DFN_10_05-08-1699.pdf
footprint LT-DD-10_V (SON, 10-Leads, Body 3x3mm, Pitch 0.5mm, Thermal Pad 2.38x1.65mm)
pins: 1 V3 (in) "Voltage Input 3. Select from 2.5V, 1.8V, 1.5V or ADJ. See Table 1 for details.", 2 V1 (in) "Voltage Input 1. Select from 5V or 3.3V. See Table 1 for details. The greater of (V1, V2) is also VCC for the device. Bypass this pin to ground with a 0.1uF (or greater) capacitor.", 3 CRT (in) "Reset Delay Time Programming Pin. Attach an external capacitor (CRT) to GND to set a reset delay time of 4.6ms/nF. Leaving the pin open generates a minimum delay of approximately 50ms. A 47nF capacitor will generate a 216ms (See Datasheet)", 4 ~{RST} (out) "Reset Logic Output. Active low with active pull-up to V2 (LTC2900-2). Pulls low when any voltage input is below the reset threshold and held low for the programmed delay time after all voltage inputs are above threshold.", 5 ~{PBR} (in) "Manual Reset Pin. Attach a push-button switch between this pin and ground. A logic low on this pin will pull R\S\T\ low. When the P\B\R\ pin returns high, R\S\T\ will return high after the programmed reset delay assuming all (See Datasheet)", 6 GND (power) "Ground.", 7 VPG (in) "Voltage Threshold Combination Select Input. Connect to an external 1% resistive divider between VREF and GND to select 1 of 16 combinations of preset and/or +/-adjustable voltage thresholds (see Table 1). Do not add (See Datasheet)", 8 VREF (out) "Buffered Reference Voltage. A 1.210V nominal reference used for the programming voltage (VPG) and for the offset of negative adjustable applications. The buffered reference can source and sink up to 1mA. The reference can (See Datasheet)", 9 V4 (in) "Voltage Input 4. Select from 1.8V, 1.5V, ADJ or -ADJ. See Table 1 for details.", 10 V2 (in) "Voltage Input 2. Select from 3.3V, 3V or 2.5V. See Table 1 for details. The greater of (V1, V2) is also VCC for the device. Bypass this pin to ground with a 0.1uF (or greater) capacitor.R\S\T\ is actively pulled up to V2 in (See Datasheet)", 11 EP

## LTC2900-2IDD#TR
designator U?
Programmable Quad Supply Monitor with Adjustable Reset Timer, 10-pin SON (DD-10), -40 to 85 degC, Tape and Reel; Manufacturer: Linear Technology; PartNumber: LTC2900-2IDD#TR; Number of Supplies(#): 4; PackageVersion: Rev. C, 06/2010; PackageReference: DD-10; PackageDescription: 10-Pin Plastic DFN, Body 3 x 3 mm, Pitch 0.5 mm; Supplier 1: Digi-Key; Supplier Part Number 1: LTC2900-2IDD#TR-ND; Packing: Tape and Reel; RoHS: FALSE; Mounting Technology: Surface Mount; Code_JEDEC: MO-229; ComponentLink1Description: Manufacturer URL; ComponentLink1URL: http://www.linear.com/; ComponentLink2Description: Datasheet; ComponentLink2URL: http://cds.linear.com/docs/en/datasheet/2900f.pdf; ComponentLink3Description: Package Specification; ComponentLink3URL: http://cds.linear.com/docs/en/packaging/DFN_10_05-08-1699.pdf
footprint LT-DD-10_V (SON, 10-Leads, Body 3x3mm, Pitch 0.5mm, Thermal Pad 2.38x1.65mm)
pins: 1 V3 (in) "Voltage Input 3. Select from 2.5V, 1.8V, 1.5V or ADJ. See Table 1 for details.", 2 V1 (in) "Voltage Input 1. Select from 5V or 3.3V. See Table 1 for details. The greater of (V1, V2) is also VCC for the device. Bypass this pin to ground with a 0.1uF (or greater) capacitor.", 3 CRT (in) "Reset Delay Time Programming Pin. Attach an external capacitor (CRT) to GND to set a reset delay time of 4.6ms/nF. Leaving the pin open generates a minimum delay of approximately 50ms. A 47nF capacitor will generate a 216ms (See Datasheet)", 4 ~{RST} (out) "Reset Logic Output. Active low with active pull-up to V2 (LTC2900-2). Pulls low when any voltage input is below the reset threshold and held low for the programmed delay time after all voltage inputs are above threshold.", 5 ~{PBR} (in) "Manual Reset Pin. Attach a push-button switch between this pin and ground. A logic low on this pin will pull R\S\T\ low. When the P\B\R\ pin returns high, R\S\T\ will return high after the programmed reset delay assuming all (See Datasheet)", 6 GND (power) "Ground.", 7 VPG (in) "Voltage Threshold Combination Select Input. Connect to an external 1% resistive divider between VREF and GND to select 1 of 16 combinations of preset and/or +/-adjustable voltage thresholds (see Table 1). Do not add (See Datasheet)", 8 VREF (out) "Buffered Reference Voltage. A 1.210V nominal reference used for the programming voltage (VPG) and for the offset of negative adjustable applications. The buffered reference can source and sink up to 1mA. The reference can (See Datasheet)", 9 V4 (in) "Voltage Input 4. Select from 1.8V, 1.5V, ADJ or -ADJ. See Table 1 for details.", 10 V2 (in) "Voltage Input 2. Select from 3.3V, 3V or 2.5V. See Table 1 for details. The greater of (V1, V2) is also VCC for the device. Bypass this pin to ground with a 0.1uF (or greater) capacitor.R\S\T\ is actively pulled up to V2 in (See Datasheet)", 11 EP

## LTC2900-2IDD#TRPBF
designator U?
Programmable Quad Supply Monitor with Adjustable Reset Timer, 10-pin SON (DD-10), -40 to 85 degC, Pb-Free, Tape and Reel; Manufacturer: Linear Technology; PartNumber: LTC2900-2IDD#TRPBF; Number of Supplies(#): 4; PackageVersion: Rev. C, 06/2010; PackageReference: DD-10; PackageDescription: 10-Pin Plastic DFN, Body 3 x 3 mm, Pitch 0.5 mm; Supplier 1: Digi-Key; Supplier Part Number 1: LTC2900-2IDD#TRPBF-ND; Packing: Tape and Reel; RoHS: TRUE; Mounting Technology: Surface Mount; Code_JEDEC: MO-229; ComponentLink1Description: Manufacturer URL; ComponentLink1URL: http://www.linear.com/; ComponentLink2Description: Datasheet; ComponentLink2URL: http://cds.linear.com/docs/en/datasheet/2900f.pdf; ComponentLink3Description: Package Specification; ComponentLink3URL: http://cds.linear.com/docs/en/packaging/DFN_10_05-08-1699.pdf
footprint LT-DD-10_V (SON, 10-Leads, Body 3x3mm, Pitch 0.5mm, Thermal Pad 2.38x1.65mm)
pins: 1 V3 (in) "Voltage Input 3. Select from 2.5V, 1.8V, 1.5V or ADJ. See Table 1 for details.", 2 V1 (in) "Voltage Input 1. Select from 5V or 3.3V. See Table 1 for details. The greater of (V1, V2) is also VCC for the device. Bypass this pin to ground with a 0.1uF (or greater) capacitor.", 3 CRT (in) "Reset Delay Time Programming Pin. Attach an external capacitor (CRT) to GND to set a reset delay time of 4.6ms/nF. Leaving the pin open generates a minimum delay of approximately 50ms. A 47nF capacitor will generate a 216ms (See Datasheet)", 4 ~{RST} (out) "Reset Logic Output. Active low with active pull-up to V2 (LTC2900-2). Pulls low when any voltage input is below the reset threshold and held low for the programmed delay time after all voltage inputs are above threshold.", 5 ~{PBR} (in) "Manual Reset Pin. Attach a push-button switch between this pin and ground. A logic low on this pin will pull R\S\T\ low. When the P\B\R\ pin returns high, R\S\T\ will return high after the programmed reset delay assuming all (See Datasheet)", 6 GND (power) "Ground.", 7 VPG (in) "Voltage Threshold Combination Select Input. Connect to an external 1% resistive divider between VREF and GND to select 1 of 16 combinations of preset and/or +/-adjustable voltage thresholds (see Table 1). Do not add (See Datasheet)", 8 VREF (out) "Buffered Reference Voltage. A 1.210V nominal reference used for the programming voltage (VPG) and for the offset of negative adjustable applications. The buffered reference can source and sink up to 1mA. The reference can (See Datasheet)", 9 V4 (in) "Voltage Input 4. Select from 1.8V, 1.5V, ADJ or -ADJ. See Table 1 for details.", 10 V2 (in) "Voltage Input 2. Select from 3.3V, 3V or 2.5V. See Table 1 for details. The greater of (V1, V2) is also VCC for the device. Bypass this pin to ground with a 0.1uF (or greater) capacitor.R\S\T\ is actively pulled up to V2 in (See Datasheet)", 11 EP

## LTC2900-2IMS
designator U?
Programmable Quad Supply Monitor with Adjustable Reset Timer, 10-pin SOP (MS-10), -40 to 85 degC; Manufacturer: Linear Technology; PartNumber: LTC2900-2IMS; Number of Supplies(#): 4; PackageVersion: Rev. E, 06/2010; PackageReference: MS-10; PackageDescription: 10-Pin Plastic MSOP, Body 3 x 3 mm, Pitch 0.5 mm; Supplier 1: Digi-Key; Supplier Part Number 1: LTC2900-2IMS-ND; RoHS: FALSE; Mounting Technology: Surface Mount; ComponentLink1Description: Manufacturer URL; ComponentLink1URL: http://www.linear.com/; ComponentLink2Description: Datasheet; ComponentLink2URL: http://cds.linear.com/docs/en/datasheet/2900f.pdf; ComponentLink3Description: Package Specification; ComponentLink3URL: http://cds.linear.com/docs/en/packaging/05081661_F_MS.pdf
footprint LT-MS-10_N (SOP, 10-Leads, Body 3.1x3.1mm, Pitch 0.5mm, IPC Medium Density)
footprint LT-MS-10_L (SOP, 10-Leads, Body 3.1x3.1mm, Pitch 0.5mm, IPC High Density)
footprint LT-MS-10_M (SOP, 10-Leads, Body 3.1x3.1mm, Pitch 0.5mm, IPC Low Density)
pins: 1 V3 (in) "Voltage Input 3. Select from 2.5V, 1.8V, 1.5V or ADJ. See Table 1 for details.", 2 V1 (in) "Voltage Input 1. Select from 5V or 3.3V. See Table 1 for details. The greater of (V1, V2) is also VCC for the device. Bypass this pin to ground with a 0.1uF (or greater) capacitor.", 3 CRT (in) "Reset Delay Time Programming Pin. Attach an external capacitor (CRT) to GND to set a reset delay time of 4.6ms/nF. Leaving the pin open generates a minimum delay of approximately 50us. A 47nF capacitor will generate a 216ms (See Datasheet)", 4 ~{RST} (out) "Reset Logic Output. Active low with active pull-up to V2 (LTC2900-2). Pulls low when any voltage input is below the reset threshold and held low for the programmed delay time after all voltage inputs are above threshold.", 5 ~{PBR} (in) "Manual Reset Pin. Attach a push-button switch between this pin and ground. A logic low on this pin will pull R\S\T\ low. When the P\B\R\ pin returns high, R\S\T\ will return high after the programmed reset delay assuming all (See Datasheet)", 6 GND (power) "Ground.", 7 VPG (in) "Voltage Threshold Combination Select Input. Connect to an external 1% resistive divider between VREF and GND to select 1 of 16 combinations of preset and/or +/-adjustable voltage thresholds (see Table 1). Do not add (See Datasheet)", 8 VREF (out) "Buffered Reference Voltage. A 1.210V nominal reference used for the programming voltage (VPG) and for the offset of negative adjustable applications. The buffered reference can source and sink up to 1mA. The reference can (See Datasheet)", 9 V4 (in) "Voltage Input 4. Select from 1.8V, 1.5V, ADJ or -ADJ. See Table 1 for details.", 10 V2 (in) "Voltage Input 2. Select from 3.3V, 3V or 2.5V. See Table 1 for details. The greater of (V1, V2) is also VCC for the device. Bypass this pin to ground with a 0.1uF (or greater) capacitor.R\S\T\ is actively pulled up to V2 in (See Datasheet)"